# Altium footprint library 底板-PCB.PcbLib: 7 footprints
Each footprint in its own frame and in the unit in brackets; x right, y up, seen from the top. Pads: shape width x height; smd on the part's side, far side on the other; paste and mask are expansions set on the pad; w line width, h text height; cw(c..) or ccw(c..) is an arc to the next point about the centre after c.
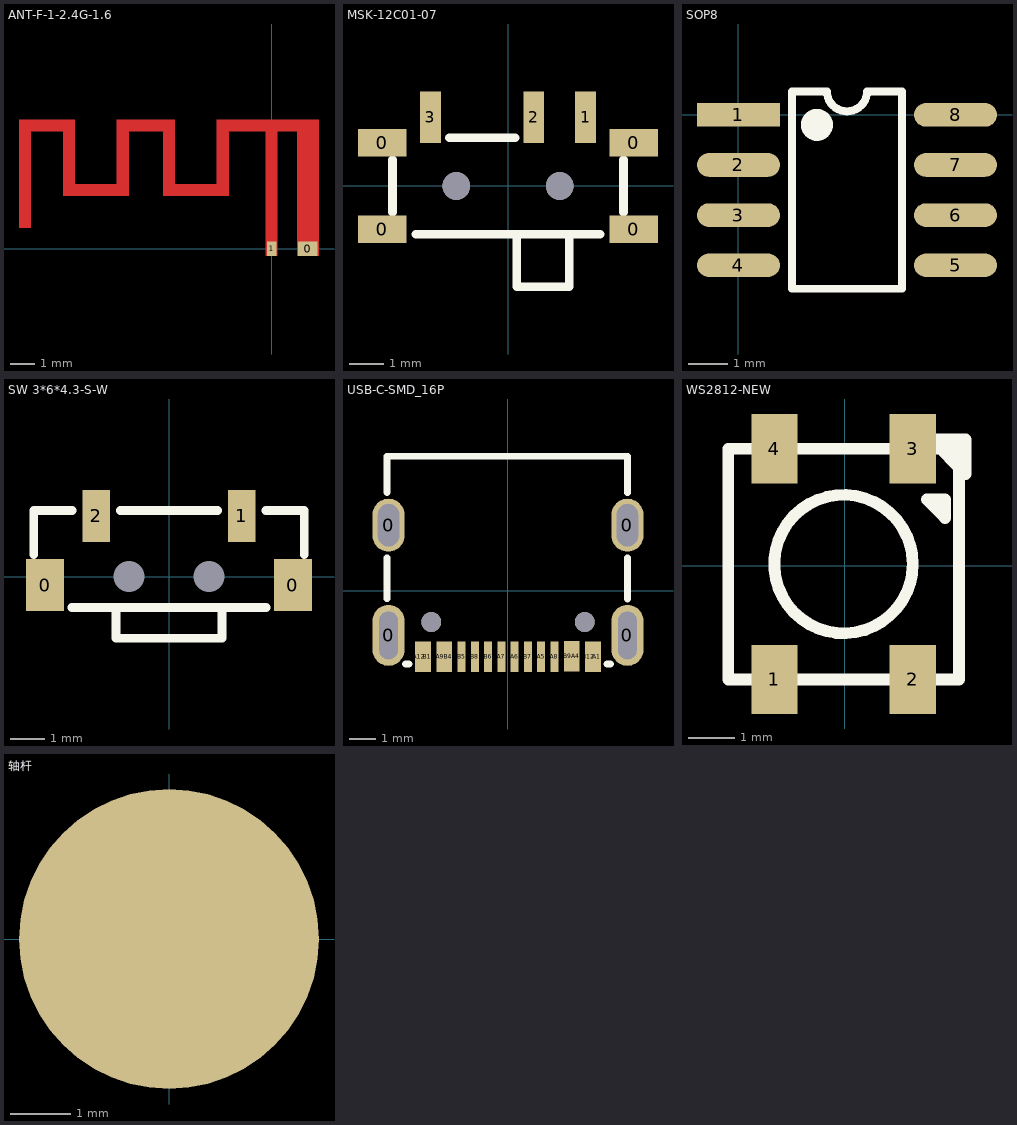
[diagram p0: the footprints below, top view; thin cyan lines are the x and y axes]

## ANT-F-1-2.4G-1.6 [mm]
height 7
pads (2):
  rect 0.8x0.6 smd mask+0: 0(1.483,0)
  rect 0.4x0.6 smd mask+0: 1(0,0)
Top Layer:
  region: -9.86,4.976 -10.36,4.976 -10.36,0.856 -9.86,0.856
  region: -8.06,5.296 -10.36,5.296 -10.36,4.796 -8.06,4.796
  region: -8.061,4.977 -8.561,4.977 -8.561,2.157 -8.061,2.157
  region: -5.875,2.656 -8.364,2.656 -8.364,2.156 -5.875,2.156
  region: -5.86,4.977 -6.36,4.977 -6.36,2.157 -5.86,2.157
  region: -3.965,5.296 -6.365,5.296 -6.365,4.796 -3.965,4.796
  region: -3.96,4.976 -4.46,4.976 -4.46,2.156 -3.96,2.156
  region: -1.85,2.651 -4.39,2.651 -4.39,2.157 -1.85,2.157
  region: -1.759,4.977 -2.259,4.977 -2.259,2.157 -1.759,2.157
  region: 1.94,5.297 -2.26,5.297 -2.26,4.797 1.94,4.797
  region: 1.939,5.002 1.039,5.002 1.039,-0.304 1.939,-0.304
  region: 0.241,5.028 -0.259,5.028 -0.259,-0.304 0.241,-0.304
Top Solder:
  region: 0.241,5.028 -0.259,5.028 -0.259,-0.304 0.241,-0.304
  region: 1.939,5.002 1.039,5.002 1.039,-0.304 1.939,-0.304
  region: 1.94,5.297 -2.26,5.297 -2.26,4.797 1.94,4.797
  region: -1.759,4.977 -2.259,4.977 -2.259,2.157 -1.759,2.157
  region: -1.85,2.651 -4.39,2.651 -4.39,2.157 -1.85,2.157
  region: -3.96,4.976 -4.46,4.976 -4.46,2.156 -3.96,2.156
  region: -3.965,5.296 -6.365,5.296 -6.365,4.796 -3.965,4.796
  region: -5.86,4.977 -6.36,4.977 -6.36,2.157 -5.86,2.157
  region: -5.875,2.656 -8.364,2.656 -8.364,2.156 -5.875,2.156
  region: -8.061,4.977 -8.561,4.977 -8.561,2.157 -8.061,2.157
  region: -8.06,5.296 -10.36,5.296 -10.36,4.796 -8.06,4.796
  region: -9.86,4.976 -10.36,4.976 -10.36,0.856 -9.86,0.856

## MSK-12C01-07 [mm]
height 1.5
pads (9):
  rect 1.4x0.8 smd: 0(-3.65,-1.25) 0(-3.65,1.25) 0(3.65,-1.25) 0(3.65,1.25)
  rect 0.6x1.5 smd: 1(2.25,1.996) 2(0.75,1.996) 3(-2.25,1.996)
  round 0.8 hole 0.8: " "(-1.5,0) " "(1.5,0)
Top Overlay:
  lines w0.254: -3.35,-0.762 -3.35,0.762 ; -2.667,-1.397 2.667,-1.397 ; -1.699,1.397 0.206,1.397 ; 0.254,-1.4 0.254,-2.921 1.778,-2.921 1.778,-1.4 ; 3.35,-0.762 3.35,0.762
3D body "MSK-12C01-07.STEP": height 1.5, standoff -0.5, extent -3.92,-2.887 3.92,2.413

## SOP8 [mm]
height 1.5
pads (8):
  rect 2.1x0.6 smd: 1(0,0)
  oval 2.1x0.6 smd: 2(0,-1.27) 3(0,-2.54) 4(0,-3.81) 5(5.5,-3.81) 6(5.5,-2.54) 7(5.5,-1.27) 8(5.5,0)
Top Overlay:
  circle w0.5: c1.988,-0.254 r0.155
  lines w0.2: 1.353,0.595 1.353,-4.405 4.147,-4.405 4.147,0.595
  lines w0.203: 1.353,0.595 2.242,0.595 ccw(c2.75,0.595) 2.75,0.087 ccw(c2.75,0.595) 3.258,0.595 4.147,0.595
3D body "SOP8.STEP": height 1.9, standoff 0, extent -0.209,-4.445 5.797,0.555

## SW 3*6*4.3-S-W [mm] "侧立贴片3*6*4.3"
pads (6):
  rect 1.1x1.5 smd: 0(-3.575,-0.25) 0(3.575,-0.25)
  round 0 hole 0.9: 0(-1.15,0) 0(1.15,0)
  rect 0.8x1.5 smd: 1(2.1,1.75) 2(-2.1,1.75)
Top Overlay:
  lines w0.254: -3.9,0.635 -3.9,1.9 -3.895,1.905 -2.794,1.905 ; -2.794,-0.889 2.794,-0.889 ; -1.524,-0.889 -1.524,-1.778 1.524,-1.778 1.524,-0.889 ; -1.397,1.905 1.397,1.905 ; 2.794,1.905 3.895,1.905 3.9,1.91 3.9,0.635
3D body "TSW.3x6x4.3-s-w.STEP": height 3.51, standoff -0.74, extent -3.9,-1.79 3.9,1.91

## USB-C-SMD_16P [mm] "封装库来自淘宝ID:黄晶宝石"
height 1.5
pads (22):
  oval 1.2x2 hole 0.8 slot 1.6 at 90 deg: 0(-4.5,2.475) 0(4.5,2.475)
  oval 1.2x2.3 hole 0.7 slot 1.8 at 90 deg: 0(-4.5,-1.675) 0(4.5,-1.675)
  rect 0.3x1.15 smd: A1(3.35,-2.473) A4(2.55,-2.471) A5(1.25,-2.475) A6(0.25,-2.475) A7(-0.25,-2.473) A9(-2.55,-2.475) A12(-3.35,-2.475) B1(-3.05,-2.475) B4(-2.25,-2.475) B5(-1.75,-2.475) B6(-0.75,-2.475) B7(0.75,-2.473) B9(2.25,-2.471) B12(3.05,-2.473)
  rect 0.3x1.148 smd: A8(1.75,-2.475) B8(-1.25,-2.475)
  round 0.75 hole 0.75 unplated: ""(-2.89,-1.175) ""(2.89,-1.175)
Top Overlay:
  lines w0.254: -4.557,-0.296 -4.557,1.246 ; -4.557,3.704 -4.557,5.075 4.5,5.075 4.5,3.698 ; -3.856,-2.75 -3.819,-2.75 -3.731,-2.75 ; 3.731,-2.75 3.856,-2.75 ; 4.5,-0.302 4.5,1.252
3D body "USB_TYPE-C_a.STEP": height 3.25, standoff -0.85, extent -4.445,-2.875 4.495,5.025

## WS2812-NEW [mil]
pads (4):
  rect 39.3x59 smd: 1(-60,-96.85) 2(58.1,-96.85)
  rect 39.3x59.1 smd: 3(58.1,100) 4(-60,100)
Top Overlay:
  circle w10: c-0.95,1.55 r59.06
  lines w10: -99.37,-96.87 97.48,-96.87 97.48,99.98 -99.37,99.98 -99.37,-96.87 ; 69.92,56.66 85.66,40.92 85.67,56.66 69.92,56.66 ; 73.86,107.84 103.39,78.32 103.39,107.84 73.86,107.84
3D body: height 40, standoff 38, extent -60,-55 60,60
3D body: height 39, standoff 0, extent -99.37,-96.87 97.48,99.98

## 轴杆 [mm]
pads (1):
  round 5 smd mask+0.102: ""(0,0)
3D body: height 20, standoff 0, extent -2.514,-2.514 2.514,2.514